# EAGLE library part ADV7123 (library Labor)
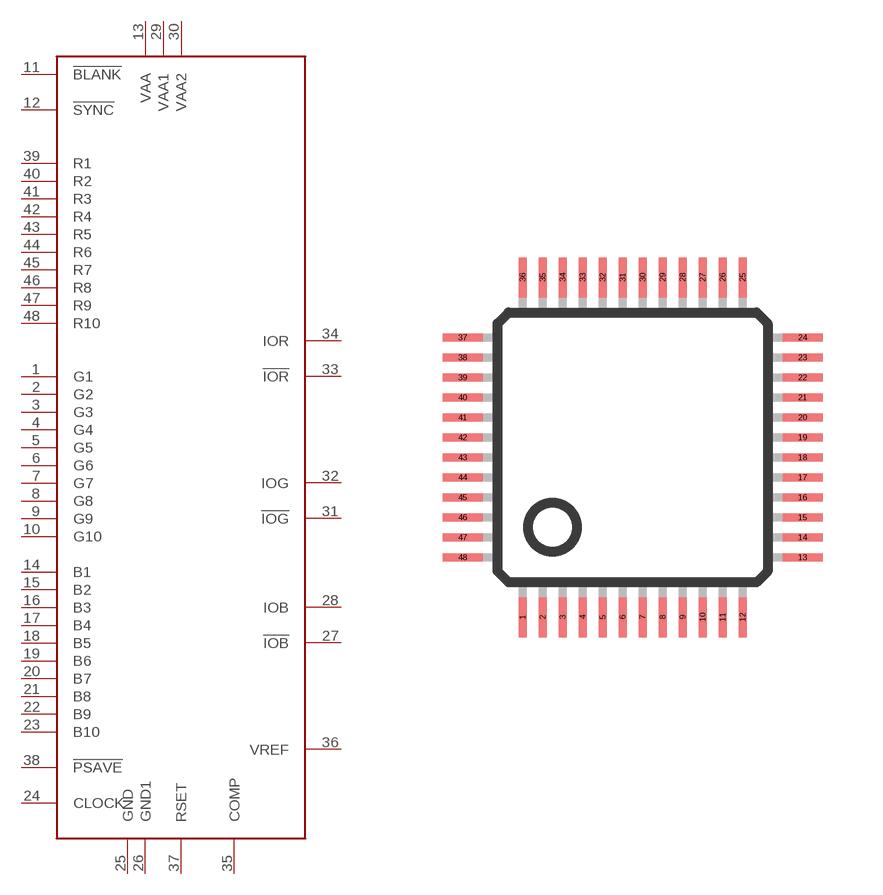
[diagram p13: symbol with the pads of LQFP48; footprint LQFP48]

Designator prefix -

## ADV7123  [LQFP48]
1  G1
2  G2
3  G3
4  G4
5  G5
6  G6
7  G7
8  G8
9  G9
10  G10
11  !BLANK
12  !SYNC
13  VAA  pwr
14  B1
15  B2
16  B3
17  B4
18  B5
19  B6
20  B7
21  B8
22  B9
23  B10
24  CLOCK
25  GND  sup
26  GND1  sup
27  !IOB
28  IOB
29  VAA1  pwr
30  VAA2  pwr
31  !IOG
32  IOG
33  !IOR
34  IOR
35  COMP
36  VREF
37  RSET
38  !PSAVE
39  R1
40  R2
41  R3
42  R4
43  R5
44  R6
45  R7
46  R8
47  R9
48  R10

## Footprint LQFP48 (pad centres in mm)
48-pin plastic LQFP (FPT-48P-M26) www.fma.fujitsu.com/pdf/e713717.pdf
smd 0.2 x 1: 1 -2.75,-4.25; 2 -2.25,-4.25; 3 -1.75,-4.25; 4 -1.25,-4.25; 5 -0.75,-4.25; 6 -0.25,-4.25; 7 0.25,-4.25; 8 0.75,-4.25; 9 1.25,-4.25; 10 1.75,-4.25; 11 2.25,-4.25; 12 2.75,-4.25; 25 2.75,4.25; 26 2.25,4.25; 27 1.75,4.25; 28 1.25,4.25; 29 0.75,4.25; 30 0.25,4.25; 31 -0.25,4.25; 32 -0.75,4.25; 33 -1.25,4.25; 34 -1.75,4.25; 35 -2.25,4.25; 36 -2.75,4.25
smd 1 x 0.2: 13 4.25,-2.75; 14 4.25,-2.25; 15 4.25,-1.75; 16 4.25,-1.25; 17 4.25,-0.75; 18 4.25,-0.25; 19 4.25,0.25; 20 4.25,0.75; 21 4.25,1.25; 22 4.25,1.75; 23 4.25,2.25; 24 4.25,2.75; 37 -4.25,2.75; 38 -4.25,2.25; 39 -4.25,1.75; 40 -4.25,1.25; 41 -4.25,0.75; 42 -4.25,0.25; 43 -4.25,-0.25; 44 -4.25,-0.75; 45 -4.25,-1.25; 46 -4.25,-1.75; 47 -4.25,-2.25; 48 -4.25,-2.75